# Altium footprint library Passives.PcbLib: 27 footprints (part 2 of 2)
Each footprint in its own frame and in the unit in brackets; x right, y up, seen from the top. Pads: shape width x height; smd on the part's side, far side on the other; paste and mask are expansions set on the pad; w line width, h text height; cw(c..) or ccw(c..) is an arc to the next point about the centre after c.
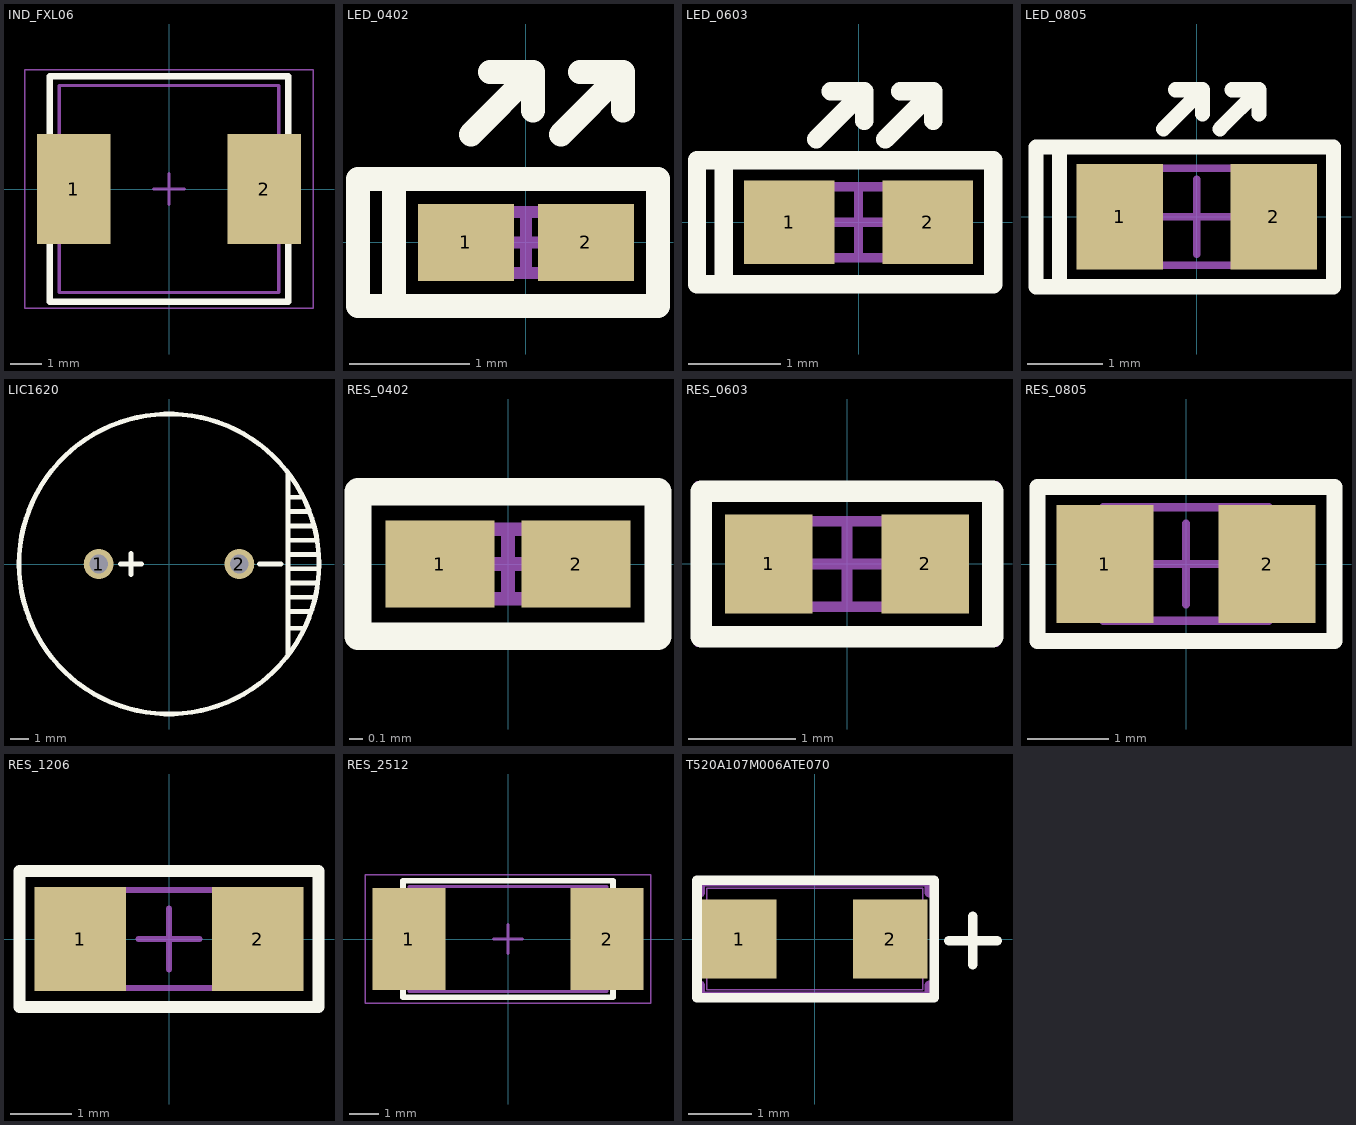
[diagram p1: the footprints below, top view; thin cyan lines are the x and y axes]

## IND_FXL06 [mm] "Precision Wire Wound Inductor, 2-Leads, Body 4,50x4,00mm, IPC Medium Density"
height 3.3
pads (2):
  rect 2.35x3.5 smd: 1(-3.035,0) 2(3.035,0)
Top Overlay:
  lines w0.2: -3.8,-3.6 3.8,-3.6 3.8,3.6 -3.8,3.6 -3.8,-3.6
Mechanical 13:
  lines w0.1: -3.5,-3.3 -3.5,3.3 3.5,3.3 3.5,-3.3 -3.5,-3.3
Mechanical 15:
  lines w0.05: -4.6,-3.8 -4.6,3.8 4.6,3.8 4.6,-3.8 -4.6,-3.8
  lines w0.1: -0.5,0 0.5,0 ; 0,-0.5 0,0.5
3D body: height 2.8, standoff 0, extent -3.5,-3.3 3.5,3.3

## LED_0402 [mm] "Chip Capacitor, 2-Leads, Body 1,53x0,77mm, IPC Medium Density"
height 0.7
pads (2):
  rect 0.8x0.64 smd: 1(-0.5,0) 2(0.5,0)
Top Overlay:
  lines w0.2: -0.46,0.9 0.06,1.42 ; -0.3,1.42 0.06,1.42 ; 0.06,1.1 0.06,1.42 ; 0.29,0.9 0.81,1.42 ; 0.45,1.42 0.81,1.42 ; 0.81,1.1 0.81,1.42 ; -1.1,-0.53 -1.4,-0.53 -1.4,0.53 -1.1,0.53 ; -1.1,-0.53 1.1,-0.53 1.1,0.53 -1.1,0.53 ; -1.1,-0.53 -1.1,0.53
Mechanical 13:
  lines w0.1: -0.55,-0.255 -0.55,0.255 0.55,0.255 0.55,-0.255 -0.55,-0.255
Mechanical 15:
  lines w0.05: -1.05,-0.5 -1.05,0.5 1.05,0.5 1.05,-0.5 -1.05,-0.5
  lines w0.1: -0.255,0 0.255,0 ; 0,-0.255 0,0.255
3D body: height 0.5, standoff 0, extent -0.3,-0.255 0.3,0.255
3D body: height 0.5, standoff 0, extent -0.55,-0.255 -0.3,0.255
3D body: height 0.5, standoff 0, extent 0.3,-0.255 0.55,0.255

## LED_0603 [mm] "Chip Capacitor, 2-Leads, Body 1,53x0,77mm, IPC Medium Density"
height 0.7
pads (2):
  rect 0.98x0.9 smd: 1(-0.75,0) 2(0.75,0)
Top Overlay:
  lines w0.2: -0.46,0.9 0.06,1.42 ; -0.3,1.42 0.06,1.42 ; 0.06,1.1 0.06,1.42 ; 0.29,0.9 0.81,1.42 ; 0.45,1.42 0.81,1.42 ; 0.81,1.1 0.81,1.42 ; -1.46,-0.67 -1.75,-0.67 -1.75,0.67 -1.46,0.67 ; -1.46,-0.67 -1.46,0.67 ; -1.46,-0.67 1.46,-0.67 1.46,0.67 -1.46,0.67
Mechanical 13:
  lines w0.1: -0.775,-0.385 -0.775,0.385 0.775,0.385 0.775,-0.385 -0.775,-0.385
Mechanical 15:
  lines w0.05: -1.5,-0.7 -1.5,0.7 1.5,0.7 1.5,-0.7 -1.5,-0.7
  lines w0.1: -0.385,0 0.385,0 ; 0,-0.385 0,0.385
3D body: height 0.7, standoff 0, extent -0.345,-0.385 0.345,0.385
3D body: height 0.7, standoff 0, extent -0.775,-0.385 -0.345,0.385
3D body: height 0.7, standoff 0, extent 0.345,-0.385 0.775,0.385

## LED_0805 [mm]
pads (2):
  rect 1.15x1.4 smd: 1(-1.025,0) 2(1.025,0)
Top Overlay:
  lines w0.2: -1.82,-0.93 -2.14,-0.93 -2.14,0.93 -1.82,0.93 ; -0.445,1.17 0.075,1.69 ; -0.285,1.69 0.075,1.69 ; 0.075,1.37 0.075,1.69 ; 0.305,1.17 0.825,1.69 ; 0.465,1.69 0.825,1.69 ; 0.825,1.37 0.825,1.69 ; -1.825,-0.93 -1.825,0.93 1.815,0.93 1.815,-0.93 -1.825,-0.93
Mechanical 13:
  lines w0.1: -1.035,-0.645 1.035,-0.645 1.035,0.645 -1.035,0.645 -1.035,-0.645
Mechanical 15:
  lines w0.05: -1.85,-0.95 1.85,-0.95 1.85,0.95 -1.85,0.95 -1.85,-0.95
  lines w0.1: -0.5,0 0.5,0 ; 0,-0.5 0,0.5
3D body: height 1.4, standoff 0, extent 0.535,-0.645 1.035,0.645
3D body: height 1.4, standoff 0, extent -1.035,-0.645 -0.535,0.645
3D body: height 1.4, standoff 0, extent -0.535,-0.645 0.535,0.645

## LIC1620 [mm]
pads (2):
  round 1.6 hole 1: 1(-3.75,0) 2(3.75,0)
Top Overlay:
  circle w0.254: c0,0 r8
  lines w0.254: -2.603,0 -1.46,0 ; -2.032,-0.572 -2.032,0.572 ; 4.826,0 5.969,0 ; 6.35,-4.826 6.35,4.826 ; 6.35,-3.429 7.112,-3.429 ; 6.35,-2.54 7.493,-2.54 ; 6.35,-1.778 7.747,-1.778 ; 6.35,-1.016 7.874,-1.016 ; 6.35,-0.254 7.874,-0.254 ; 6.35,0.508 7.874,0.508 ; 6.35,1.27 7.874,1.27 ; 6.35,2.032 7.62,2.032 ; 6.35,2.794 7.366,2.794 ; 6.35,3.556 7.112,3.556

## RES_0402 [mm]
pads (2):
  rect 0.8x0.64 smd: 1(-0.5,0) 2(0.5,0)
Top Overlay:
  lines w0.2: -1.1,-0.53 1.1,-0.53 1.1,0.53 -1.1,0.53 -1.1,-0.53
Mechanical 13:
  lines w0.1: -0.55,-0.255 -0.55,0.255 0.55,0.255 0.55,-0.255 -0.55,-0.255
Mechanical 15:
  lines w0.05: -1.05,-0.5 -1.05,0.5 1.05,0.5 1.05,-0.5 -1.05,-0.5
  lines w0.1: -0.255,0 0.255,0 ; 0,-0.255 0,0.255
3D body: height 0.5, standoff 0, extent -0.3,-0.255 0.3,0.255
3D body: height 0.5, standoff 0, extent -0.55,-0.255 -0.3,0.255
3D body: height 0.5, standoff 0, extent 0.3,-0.255 0.55,0.255

## RES_0603 [mm]
pads (2):
  rect 0.82x0.92 smd: 1(-0.73,0) 2(0.73,0)
Top Overlay:
  lines w0.2: -1.36,-0.68 -1.36,0.68 1.36,0.68 1.36,-0.68 -1.36,-0.68
Mechanical 13:
  lines w0.1: -0.8,-0.4 -0.8,0.4 0.8,0.4 0.8,-0.4 -0.8,-0.4
Mechanical 15:
  lines w0.05: -1.4,-0.75 -1.4,0.75 1.4,0.75 1.4,-0.75 -1.4,-0.75
  lines w0.1: -0.4,0 0.4,0 ; 0,-0.4 0,0.4
3D body: height 0.7, standoff 0, extent -0.45,-0.4 0.45,0.4
3D body: height 0.7, standoff 0, extent -0.8,-0.4 -0.45,0.4
3D body: height 0.7, standoff 0, extent 0.45,-0.4 0.8,0.4

## RES_0805 [mm]
pads (2):
  rect 1.2x1.45 smd: 1(-1,0) 2(1,0)
Top Overlay:
  lines w0.2: -1.83,-0.95 1.83,-0.95 1.83,0.95 -1.83,0.95 -1.83,-0.95
Mechanical 13:
  lines w0.1: -1.02,-0.7 -1.02,0.7 1.02,0.7 1.02,-0.7 -1.02,-0.7
Mechanical 15:
  lines w0.05: -1.85,-1 -1.85,1 1.85,1 1.85,-1 -1.85,-1
  lines w0.1: -0.5,0 0.5,0 ; 0,-0.5 0,0.5
3D body: height 1.3, standoff 0, extent -0.47,-0.7 0.47,0.7
3D body: height 1.3, standoff 0, extent -1.02,-0.7 -0.47,0.7
3D body: height 1.3, standoff 0, extent 0.47,-0.7 1.02,0.7

## RES_1206 [mm]
pads (2):
  rect 1.5x1.7 smd: 1(-1.45,0) 2(1.45,0)
Top Overlay:
  lines w0.2: -2.44,-1.11 2.44,-1.11 2.44,1.11 -2.44,1.11 -2.44,-1.11
Mechanical 13:
  lines w0.1: -1.53,-0.8 -1.53,0.8 1.53,0.8 1.53,-0.8 -1.53,-0.8
Mechanical 15:
  lines w0.05: -2.45,-1.1 -2.45,1.1 2.45,1.1 2.45,-1.1 -2.45,-1.1
  lines w0.1: -0.5,0 0.5,0 ; 0,-0.5 0,0.5
3D body: height 0.8, standoff 0, extent -0.88,-0.8 0.88,0.8
3D body: height 0.8, standoff 0, extent -1.53,-0.8 -0.88,0.8
3D body: height 0.8, standoff 0, extent 0.88,-0.8 1.53,0.8

## RES_2512 [mm]
pads (2):
  rect 2.5x3.5 smd: 1(-3.4,0) 2(3.4,0)
Top Overlay:
  lines w0.2: -3.6,-2 -3.6,2 3.6,2 3.6,-2 -3.6,-2
Mechanical 13:
  lines w0.1: -3.4,-1.8 3.4,-1.8 3.4,1.8 -3.4,1.8 -3.4,-1.8
Mechanical 15:
  lines w0.05: -4.9,-2.2 -4.9,2.2 4.9,2.2 4.9,-2.2 -4.9,-2.2
  lines w0.1: -0.5,0 0.5,0 ; 0,-0.5 0,0.5
3D body: height 0.8, standoff 0, extent 2.5,-1.8 3.4,1.8
3D body: height 0.8, standoff 0, extent -3.4,-1.8 -2.5,1.8
3D body: height 0.8, standoff 0, extent -2.5,-1.8 2.5,1.8

## T520A107M006ATE070 [mm]
pads (2):
  rect 1.177x1.249 smd paste+0 mask+0: 1(-1.188,0) 2(1.188,0)
Top Overlay:
  lines w0.152: -0.46,-0.927 0.46,-0.927 ; 2.108,-0.025 2.87,-0.025 ; 2.489,-0.406 2.489,0.356 ; -1.854,-0.927 -1.854,0.927 -0.46,0.927 0.46,0.927 1.88,0.927 1.88,-0.927 -1.854,-0.927
Mechanical 13:
  lines w0.025: 2.108,-0.025 2.87,-0.025 ; 2.489,-0.406 2.489,0.356 ; -1.7,-0.8 1.7,-0.8 1.7,0.8 -1.7,0.8 -1.7,-0.8
Mechanical 15:
  lines w0.152: -1.802,-0.726 -1.802,-0.902 1.802,-0.902 1.802,-0.726 ; -1.802,0.726 -1.802,0.902 1.802,0.902 1.802,0.726
3D body: height 0.8, standoff 0, extent -1.651,-0.672 1.626,0.672